# EAGLE library part C8051F300P (library C8051F300)
C8051F300P
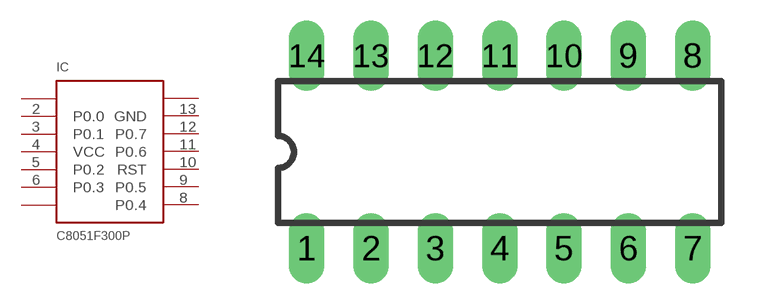
[diagram p7: symbol with the pads of DIL14; footprint DIL14]

Designator prefix IC

## C8051F300P  [DIL14]
1  P$1  nc
2  P0.0
3  P0.1
4  VCC  pwr
5  P0.2
6  P0.3
7  P$2  nc
8  P0.4
9  P0.5
10  RST  in
11  P0.6
12  P0.7
13  GND  pwr
14  P$14  nc

## Footprint DIL14 (pad centres in mm)
drill 0.889 long: 1 -7.62,-3.81; 2 -5.08,-3.81; 3 -2.54,-3.81; 4 0,-3.81; 5 2.54,-3.81; 6 5.08,-3.81; 7 7.62,-3.81; 8 7.62,3.81; 9 5.08,3.81; 10 2.54,3.81; 11 0,3.81; 12 -2.54,3.81; 13 -5.08,3.81; 14 -7.62,3.81